# EAGLE library part PINHD-1X16 (library pinhead-new)
PIN HEADER
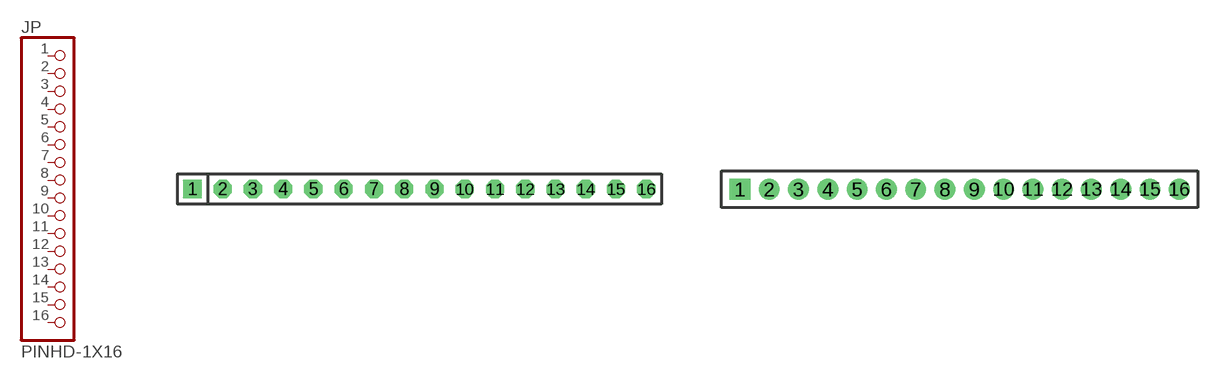
[diagram p12: symbol with the pads of 1X16; footprints 1X16, 1X16M]

Designator prefix JP

## PINHD-1X16  [1X16]
1  1  pas
2  2  pas
3  3  pas
4  4  pas
5  5  pas
6  6  pas
7  7  pas
8  8  pas
9  9  pas
10  10  pas
11  11  pas
12  12  pas
13  13  pas
14  14  pas
15  15  pas
16  16  pas

## PINHD-1X16M  [1X16M]
Pads as for 1X16

## Footprint 1X16 (pad centres in mm)
PIN HEADER - 0.1"
drill 1.016 square: 1 -19.05,0
drill 1.016 octagon: 2 -16.51,0; 3 -13.97,0; 4 -11.43,0; 5 -8.89,0; 6 -6.35,0; 7 -3.81,0; 8 -1.27,0; 9 1.27,0; 10 3.81,0; 11 6.35,0; 12 8.89,0; 13 11.43,0; 14 13.97,0; 15 16.51,0; 16 19.05,0

## Footprint 1X16M (pad centres in mm)
PIN HEADER - 2MM"
drill 0.914 square: 1 -15,0
drill 0.914 round: 2 -13,0; 3 -11,0; 4 -9,0; 5 -7,0; 6 -5,0; 7 -3,0; 8 -1,0; 9 1,0; 10 3,0; 11 5,0; 12 7,0; 13 9,0; 14 11,0; 15 13,0; 16 15,0